# Altium footprint library MF-25.PcbLib: 1 footprints
Each footprint in its own frame and in the unit in brackets; x right, y up, seen from the top. Pads: shape width x height; smd on the part's side, far side on the other; paste and mask are expansions set on the pad; w line width, h text height; cw(c..) or ccw(c..) is an arc to the next point about the centre after c.
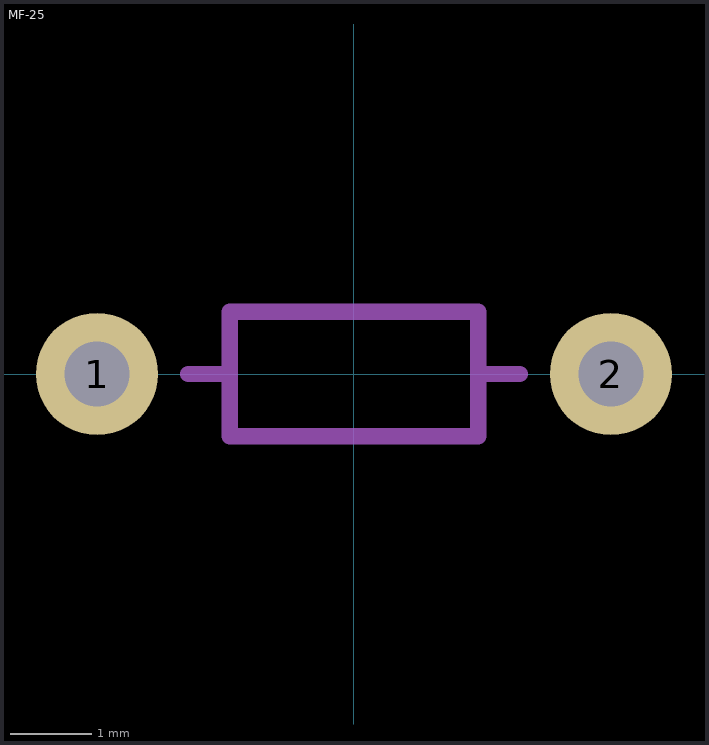
[diagram p0: the footprint, top view; thin cyan lines are the x and y axes]

## MF-25 [mm]
pads (2):
  round 1.5 hole 0.8: 1(-3.15,0) 2(3.15,0)
Mechanical 13:
  lines w0.2: -2.032,0 -1.524,0 ; 1.524,0 2.032,0 ; -1.524,0 -1.524,0.762 1.524,0.762 1.524,-0.762 -1.524,-0.762 -1.524,0
  text ".Designator" at -1.27,1.27 h2.5
3D body: height 2.42, standoff -1.5, extent -3.455,-0.914 3.403,0.926